# Altium footprint library Soldeerstation.PcbLib: 34 footprints (part 1 of 3)
Each footprint in its own frame and in the unit in brackets; x right, y up, seen from the top. Pads: shape width x height; smd on the part's side, far side on the other; paste and mask are expansions set on the pad; w line width, h text height; cw(c..) or ccw(c..) is an arc to the next point about the centre after c.
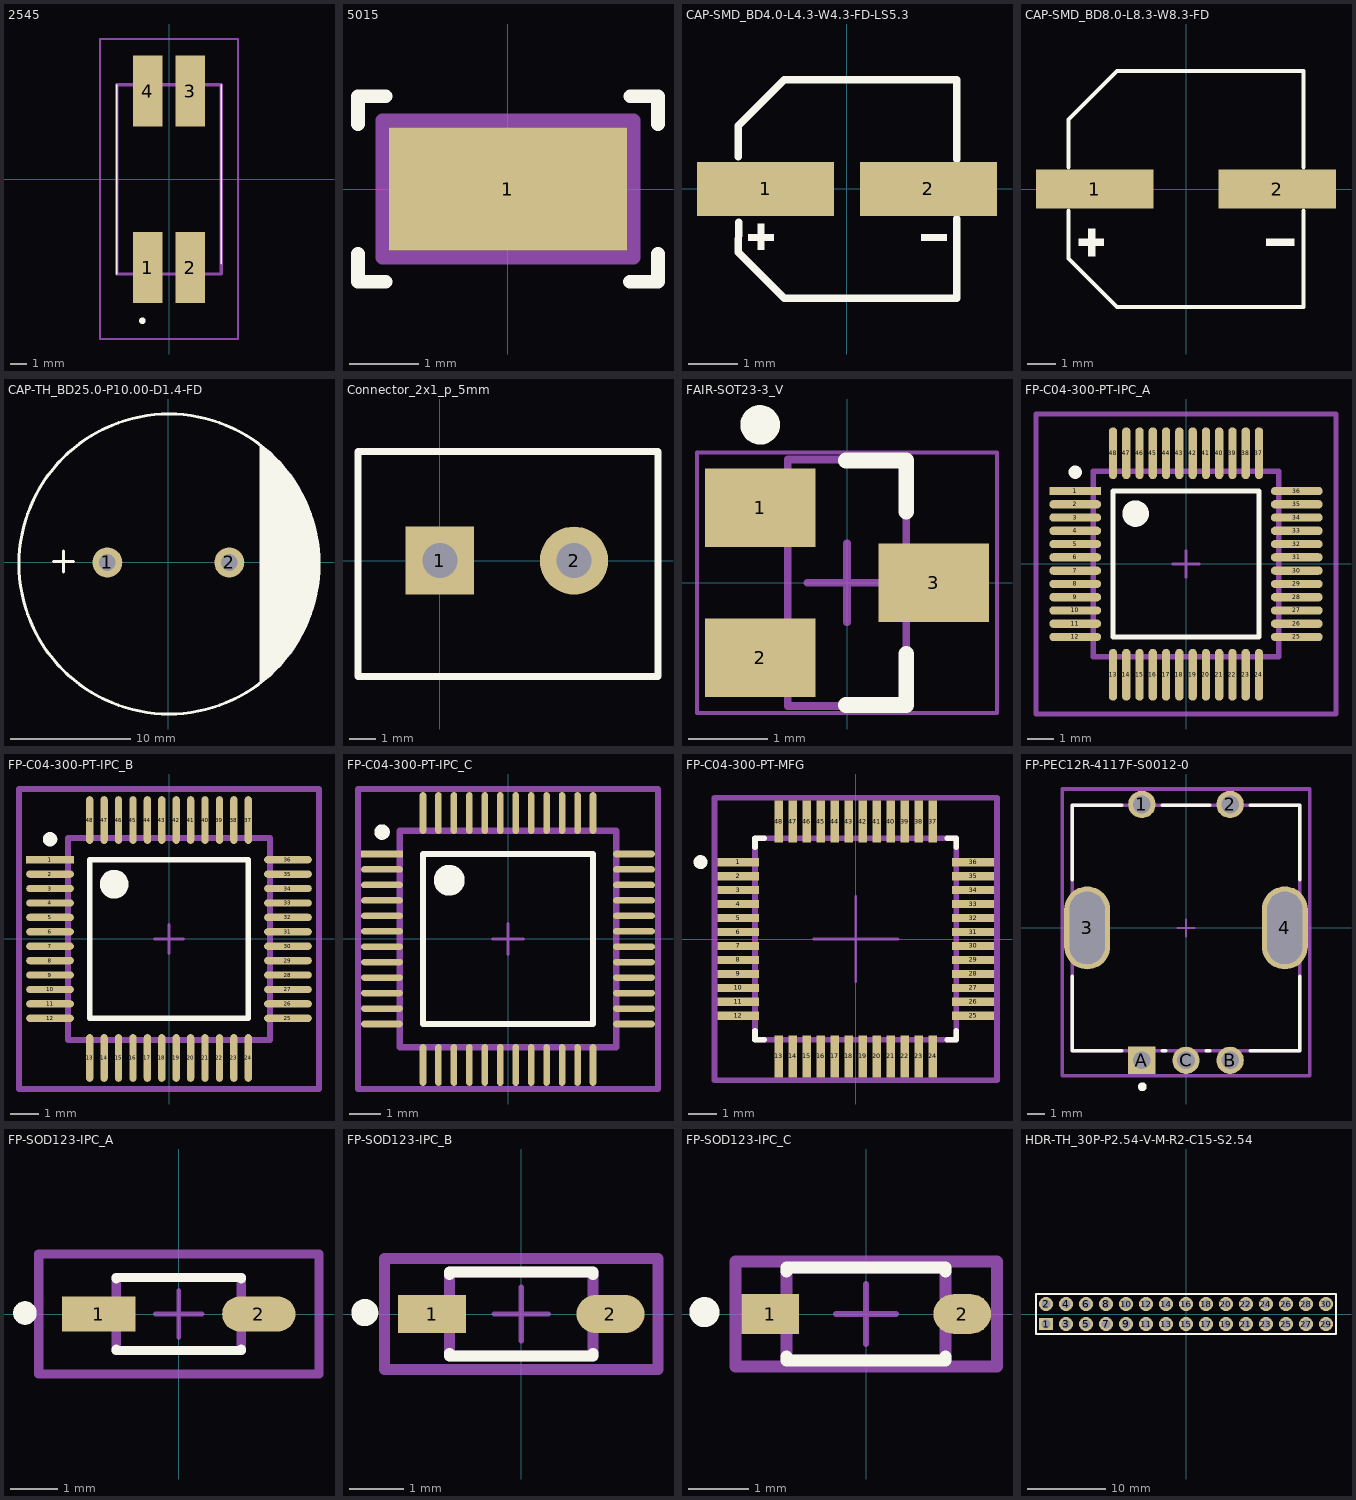
[diagram p0: the footprints below, top view; thin cyan lines are the x and y axes]

## 2545 [mm]
pads (4):
  rect 1.78x4.27 smd: 1(-1.27,-5.305) 2(1.27,-5.305) 3(1.27,5.305) 4(-1.27,5.305)
Top Overlay:
  lines w0.1: -3.15,-5.69 -3.15,5.69 ; 3.15,-5.08 3.15,5.69
  lines w0.2: -1.7,-8.5 ccw(c-1.6,-8.5) -1.5,-8.5 ccw(c-1.6,-8.5) -1.7,-8.5
Mechanical 13:
  lines w0.2: -3.15,-5.69 -3.15,5.69 3.15,5.69 3.15,-5.69 -3.15,-5.69
Mechanical 15:
  lines w0.1: -4.15,-9.6 -4.15,8.44 4.15,8.44 4.15,-9.6 -4.15,-9.6
3D body "CM2545X171R-10.stp": height 9.6, standoff 0, extent -3.15,-7.262 3.15,7.262

## 5015 [mm]
pads (1):
  rect 3.43x1.78 smd paste+0 mask+0: 1(0,0)
Top Overlay:
  lines w0.2: -2.165,-0.94 -2.165,-1.34 -1.765,-1.34 ; -2.165,0.94 -2.165,1.34 -1.765,1.34 ; 1.764,-1.339 2.164,-1.339 2.164,-0.939 ; 1.766,1.339 2.166,1.339 2.166,0.939
Top 3D Body:
  lines w0.2: -1.359,-0.572 1.359,-0.572 1.359,0.572 -1.359,0.572 -1.359,-0.572
Top Courtyard:
  lines w0.2: -1.815,-0.99 1.815,-0.99 1.815,0.99 -1.815,0.99 -1.815,-0.99
Top Assembly:
  lines w0.2: -1.815,-0.99 1.815,-0.99 1.815,0.99 -1.815,0.99 -1.815,-0.99
  text ".Designator" at -2.184,1.864 h1
Top Component Center:
  lines w0.1: -0.5,0 0.5,0 ; 0,-0.5 0,0.5
3D body "testpoint v3.step": height 1.52, standoff 0, extent -1.436,-0.483 1.233,0.537

## CAP-SMD_BD4.0-L4.3-W4.3-FD-LS5.3 [mm]
pads (2):
  rect 2.8x1.1 smd: 1(-1.66,0) 2(1.66,0)
Top Overlay:
  region: -1.818,-0.711 -1.818,-1.245 -1.689,-1.245 -1.689,-0.711
  region: -2.011,-0.925 -2.011,-1.054 -1.495,-1.054 -1.495,-0.925
  region: 2.031,-0.925 2.031,-1.054 1.515,-1.054 1.515,-0.925
  lines w0.152: -2.215,0.66 -2.217,1.29 -1.28,2.225 2.235,2.225 2.235,0.607 ; -2.21,-0.676 -2.217,-1.29 -1.28,-2.226 2.236,-2.226 2.236,-0.607
3D body "D4xL5.4 v1.step": height 5.41, standoff 0, extent -2.438,-2.159 2.462,2.141

## CAP-SMD_BD8.0-L8.3-W8.3-FD [mm] "C445063"
pads (2):
  rect 4.2x1.4 smd: 1(-3.267,0) 2(3.267,0)
Top Overlay:
  region: -3.503,-1.422 -3.503,-2.413 -3.254,-2.413 -3.254,-1.422
  region: -3.835,-1.785 -3.835,-2.033 -2.946,-2.033 -2.946,-1.785
  region: 3.876,-1.785 3.876,-2.033 2.88,-2.033 2.88,-1.785
  lines w0.152: -4.201,-0.782 -4.201,-2.49 -2.465,-4.226 4.201,-4.226 4.201,-0.782 ; -4.201,0.782 -4.201,2.49 -2.465,4.226 4.201,4.226 4.201,0.782
3D body "Nichicon D8xL10 v1.step": height 10.31, standoff 0, extent -4.638,-4.089 4.262,4.211

## CAP-TH_BD25.0-P10.00-D1.4-FD [mm]
pads (2):
  round 2.5 hole 1.4: 1(-5.08,0) 2(5.08,0)
Top Overlay:
  circle w0.254: c0.058,-0.127 r12.5
  region: 7.62,-10.1 8,-9.808 8.712,-9.168 9.374,-8.476 9.981,-7.735 10.53,-6.95 11.017,-6.125 11.44,-5.266 11.797,-4.377 12.084,-3.463 12.301,-2.531 12.447,-1.584 12.52,-0.629 12.52,0.329 12.447,1.284 12.301,2.231 12.084,3.163 11.797,4.077 11.44,4.966 11.017,5.825 10.53,6.65 9.981,7.435 9.374,8.176 8.712,8.868 8,9.508 7.62,9.8
  region: 7.62,-10.1 8,-9.808 8.712,-9.168 9.374,-8.476 9.981,-7.735 10.53,-6.95 11.017,-6.125 11.44,-5.266 11.797,-4.377 12.084,-3.463 12.301,-2.531 12.447,-1.584 12.52,-0.629 12.52,0.329 12.447,1.284 12.301,2.231 12.084,3.163 11.797,4.077 11.44,4.966 11.017,5.825 10.53,6.65 9.981,7.435 9.374,8.176 8.712,8.868 8,9.508 7.62,9.8
  lines w0.254: -9.576,0.076 -7.899,0.076 ; -8.738,-0.787 -8.738,0.94
3D body "D25xL25 v1.step": height 25, standoff 0, extent -12.496,-12.678 12.496,12.322

## Connector_2x1_p_5mm [mm]
pads (2):
  rect 2.54x2.54 hole 1.3: 1(0,0)
  round 2.54 hole 1.3: 2(5,0)
Top Overlay:
  lines w0.254: -3.048,-4.318 -3.048,0 -3.048,4.064 7.874,4.064 8.128,4.064 8.128,2.746 8.128,1.714 8.128,-1.968 8.128,-3 8.128,-3.54 8.128,-4.318 -3.048,-4.318

## FAIR-SOT23-3_V [mm] "SOT23, 3-Leads, Body 3.12x1.5mm, Pitch 0.95mm"
height 1.2
pads (3):
  rect 1.4x1 smd: 1(-1.1,0.95) 2(-1.1,-0.95) 3(1.1,0)
Top Overlay:
  circle w0.25: c-1.1,2 r0.125
  lines w0.2: -0.013,-1.55 0.75,-1.55 0.75,-0.9 ; -0.013,1.55 0.75,1.55 0.75,0.9
Mechanical 13:
  lines w0.1: -0.75,-1.56 -0.75,1.56 0.75,1.56 0.75,-1.56 -0.75,-1.56
Mechanical 15:
  lines w0.05: -1.9,-1.65 -1.9,1.65 1.9,1.65 1.9,-1.65 -1.9,-1.65
  lines w0.1: -0.5,0 0.5,0 ; 0,-0.5 0,0.5
3D body "SOT95P240X120-3L.step": height 1.2, standoff 0, extent -1.35,-1.56 1.35,1.56

## FP-C04-300-PT-IPC_A [mm]
pads (48):
  rect 1.955x0.312 smd paste+0 mask+0: 1(-4.175,2.75)
  rrect100% 1.955x0.312 smd paste+0 mask+0: 2(-4.175,2.25) 3(-4.175,1.75) 4(-4.175,1.25) 5(-4.175,0.75) 6(-4.175,0.25) 7(-4.175,-0.25) 8(-4.175,-0.75) 9(-4.175,-1.25) 10(-4.175,-1.75) 11(-4.175,-2.25) 12(-4.175,-2.75) 25(4.175,-2.75) 26(4.175,-2.25) 27(4.175,-1.75) 28(4.175,-1.25) 29(4.175,-0.75) 30(4.175,-0.25) 31(4.175,0.25) 32(4.175,0.75) 33(4.175,1.25) 34(4.175,1.75) 35(4.175,2.25) 36(4.175,2.75)
  rrect100% 0.312x1.955 smd paste+0 mask+0: 13(-2.75,-4.175) 14(-2.25,-4.175) 15(-1.75,-4.175) 16(-1.25,-4.175) 17(-0.75,-4.175) 18(-0.25,-4.175) 19(0.25,-4.175) 20(0.75,-4.175) 21(1.25,-4.175) 22(1.75,-4.175) 23(2.25,-4.175) 24(2.75,-4.175) 37(2.75,4.175) 38(2.25,4.175) 39(1.75,4.175) 40(1.25,4.175) 41(0.75,4.175) 42(0.25,4.175) 43(-0.25,4.175) 44(-0.75,4.175) 45(-1.25,4.175) 46(-1.75,4.175) 47(-2.25,4.175) 48(-2.75,4.175)
Top Overlay:
  circle w0.5: c-1.9,1.9 r0.25
  circle w0.25: c-4.175,3.46 r0.125
  lines w0.2: -2.75,-2.75 -2.75,2.75 2.75,2.75 2.75,-2.75 -2.75,-2.75
Top 3D Body:
  lines w0.2: -3.5,-3.5 -3.5,3.5 3.5,3.5 3.5,-3.5 -3.5,-3.5
Top Courtyard:
  lines w0.2: -5.653,-5.653 -5.653,5.653 5.653,5.653 5.653,-5.653 -5.653,-5.653
Top Assembly:
  lines w0.2: -5.653,-5.653 -5.653,5.653 5.653,5.653 5.653,-5.653 -5.653,-5.653
  text ".Designator" at 0,-0.001 h1
Top Component Center:
  lines w0.1: -0.5,0 0.5,0 ; 0,-0.5 0,0.5
3D body "IC_Microchip_PIC24FJ256GA705-I-PT_eec.STEP": height 0.25, standoff 0, extent -5.653,-5.653 5.653,5.653

## FP-C04-300-PT-IPC_B [mm]
pads (48):
  rect 1.655x0.252 smd paste+0 mask+0: 1(-4.125,2.75)
  rrect100% 1.655x0.252 smd paste+0 mask+0: 2(-4.125,2.25) 3(-4.125,1.75) 4(-4.125,1.25) 5(-4.125,0.75) 6(-4.125,0.25) 7(-4.125,-0.25) 8(-4.125,-0.75) 9(-4.125,-1.25) 10(-4.125,-1.75) 11(-4.125,-2.25) 12(-4.125,-2.75) 25(4.125,-2.75) 26(4.125,-2.25) 27(4.125,-1.75) 28(4.125,-1.25) 29(4.125,-0.75) 30(4.125,-0.25) 31(4.125,0.25) 32(4.125,0.75) 33(4.125,1.25) 34(4.125,1.75) 35(4.125,2.25) 36(4.125,2.75)
  rrect100% 0.252x1.655 smd paste+0 mask+0: 13(-2.75,-4.125) 14(-2.25,-4.125) 15(-1.75,-4.125) 16(-1.25,-4.125) 17(-0.75,-4.125) 18(-0.25,-4.125) 19(0.25,-4.125) 20(0.75,-4.125) 21(1.25,-4.125) 22(1.75,-4.125) 23(2.25,-4.125) 24(2.75,-4.125) 37(2.75,4.125) 38(2.25,4.125) 39(1.75,4.125) 40(1.25,4.125) 41(0.75,4.125) 42(0.25,4.125) 43(-0.25,4.125) 44(-0.75,4.125) 45(-1.25,4.125) 46(-1.75,4.125) 47(-2.25,4.125) 48(-2.75,4.125)
Top Overlay:
  circle w0.5: c-1.9,1.9 r0.25
  circle w0.25: c-4.125,3.46 r0.125
  lines w0.2: -2.75,-2.75 -2.75,2.75 2.75,2.75 2.75,-2.75 -2.75,-2.75
Top 3D Body:
  lines w0.2: -3.5,-3.5 -3.5,3.5 3.5,3.5 3.5,-3.5 -3.5,-3.5
Top Courtyard:
  lines w0.2: -5.203,-5.203 -5.203,5.203 5.203,5.203 5.203,-5.203 -5.203,-5.203
Top Assembly:
  lines w0.2: -5.203,-5.203 -5.203,5.203 5.203,5.203 5.203,-5.203 -5.203,-5.203
  text ".Designator" at 0,-0.001 h1
Top Component Center:
  lines w0.1: -0.5,0 0.5,0 ; 0,-0.5 0,0.5
3D body "IC_Microchip_PIC24FJ256GA705-I-PT_eec.STEP": height 0.25, standoff 0, extent -5.203,-5.203 5.203,5.203

## FP-C04-300-PT-IPC_C [mm]
pads (48):
  rect 1.355x0.212 smd paste+0 mask+0: 1(-4.075,2.75)
  rrect100% 1.355x0.212 smd paste+0 mask+0: 2(-4.075,2.25) 3(-4.075,1.75) 4(-4.075,1.25) 5(-4.075,0.75) 6(-4.075,0.25) 7(-4.075,-0.25) 8(-4.075,-0.75) 9(-4.075,-1.25) 10(-4.075,-1.75) 11(-4.075,-2.25) 12(-4.075,-2.75) 25(4.075,-2.75) 26(4.075,-2.25) 27(4.075,-1.75) 28(4.075,-1.25) 29(4.075,-0.75) 30(4.075,-0.25) 31(4.075,0.25) 32(4.075,0.75) 33(4.075,1.25) 34(4.075,1.75) 35(4.075,2.25) 36(4.075,2.75)
  rrect100% 0.212x1.355 smd paste+0 mask+0: 13(-2.75,-4.075) 14(-2.25,-4.075) 15(-1.75,-4.075) 16(-1.25,-4.075) 17(-0.75,-4.075) 18(-0.25,-4.075) 19(0.25,-4.075) 20(0.75,-4.075) 21(1.25,-4.075) 22(1.75,-4.075) 23(2.25,-4.075) 24(2.75,-4.075) 37(2.75,4.075) 38(2.25,4.075) 39(1.75,4.075) 40(1.25,4.075) 41(0.75,4.075) 42(0.25,4.075) 43(-0.25,4.075) 44(-0.75,4.075) 45(-1.25,4.075) 46(-1.75,4.075) 47(-2.25,4.075) 48(-2.75,4.075)
Top Overlay:
  circle w0.25: c-4.075,3.46 r0.125
  circle w0.5: c-1.9,1.9 r0.25
  lines w0.2: -2.75,-2.75 2.75,-2.75 2.75,2.75 -2.75,2.75 -2.75,-2.75
Top 3D Body:
  lines w0.2: -3.5,-3.5 3.5,-3.5 3.5,3.5 -3.5,3.5 -3.5,-3.5
Top Courtyard:
  lines w0.2: -4.853,-4.853 4.853,-4.853 4.853,4.853 -4.853,4.853 -4.853,-4.853
Top Assembly:
  lines w0.2: -4.853,-4.853 4.853,-4.853 4.853,4.853 -4.853,4.853 -4.853,-4.853
  text ".Designator" at 0,-0.001 h1
Top Component Center:
  lines w0.1: -0.5,0 0.5,0 ; 0,-0.5 0,0.5
3D body "IC_Microchip_PIC24FJ256GA705-I-PT_eec.STEP": height 0.25, standoff 0, extent -4.853,-4.853 4.853,4.853

## FP-C04-300-PT-MFG [mm]
pads (48):
  rect 1.5x0.3 smd paste+0 mask+0: 1(-4.2,2.75) 2(-4.2,2.25) 3(-4.2,1.75) 4(-4.2,1.25) 5(-4.2,0.75) 6(-4.2,0.25) 7(-4.2,-0.25) 8(-4.2,-0.75) 9(-4.2,-1.25) 10(-4.2,-1.75) 11(-4.2,-2.25) 12(-4.2,-2.75) 25(4.2,-2.75) 26(4.2,-2.25) 27(4.2,-1.75) 28(4.2,-1.25) 29(4.2,-0.75) 30(4.2,-0.25) 31(4.2,0.25) 32(4.2,0.75) 33(4.2,1.25) 34(4.2,1.75) 35(4.2,2.25) 36(4.2,2.75)
  rect 0.3x1.5 smd paste+0 mask+0: 13(-2.75,-4.2) 14(-2.25,-4.2) 15(-1.75,-4.2) 16(-1.25,-4.2) 17(-0.75,-4.2) 18(-0.25,-4.2) 19(0.25,-4.2) 20(0.75,-4.2) 21(1.25,-4.2) 22(1.75,-4.2) 23(2.25,-4.2) 24(2.75,-4.2) 37(2.75,4.2) 38(2.25,4.2) 39(1.75,4.2) 40(1.25,4.2) 41(0.75,4.2) 42(0.25,4.2) 43(-0.25,4.2) 44(-0.75,4.2) 45(-1.25,4.2) 46(-1.75,4.2) 47(-2.25,4.2) 48(-2.75,4.2)
Top Overlay:
  circle w0.25: c-5.55,2.75 r0.125
  lines w0.2: -3.6,-3.275 -3.6,-3.6 -3.275,-3.6 ; -3.6,3.275 -3.6,3.6 -3.275,3.6 ; 3.275,-3.6 3.6,-3.6 3.6,-3.275 ; 3.275,3.6 3.6,3.6 3.6,3.275
Top 3D Body:
  lines w0.2: -3.6,-3.6 3.6,-3.6 3.6,3.6 -3.6,3.6 -3.6,-3.6
Top Courtyard:
  lines w0.2: -5.05,-5.05 5.05,-5.05 5.05,5.05 -5.05,5.05 -5.05,-5.05
Top Assembly:
  lines w0.2: -5.05,-5.05 5.05,-5.05 5.05,5.05 -5.05,5.05 -5.05,-5.05
  text ".Designator" at 0,0.188 h1
Top Component Center:
  lines w0.1: -1.515,0 1.515,0 ; 0,-1.515 0,1.515
3D body "IC_Microchip_PIC24FJ256GA705-I-PT_eec.STEP": height 0.25, standoff 0, extent -5.05,-5.05 5.05,5.05

## FP-PEC12R-4117F-S0012-0 [mm]
pads (7):
  round 1.55 hole 1 paste-1000 mask+0: 1(-2.5,7) 2(2.5,7) B(2.5,-7.5) C(0,-7.5)
  rrect100% 2.6x4.7 hole 4.1 slot 2 at 0 deg paste-1000 mask+0: 3(-5.6,0) 4(5.6,0)
  rect 1.55x1.55 hole 1 paste-1000 mask+0: A(-2.5,-7.5)
Top Overlay:
  circle w0.25: c-2.475,-9 r0.125
  lines w0.2: -6.45,-2.725 -6.45,-6.95 -3.65,-6.95 ; -6.45,2.725 -6.45,6.95 -3.65,6.95 ; -1.35,-6.95 -1.15,-6.95 ; -1.35,6.95 1.35,6.95 ; 1.15,-6.95 1.35,-6.95 ; 3.65,-6.95 6.45,-6.95 6.45,-2.725 ; 3.65,6.95 6.45,6.95 6.45,2.725
Top 3D Body:
  lines w0.2: -6.45,-6.95 6.45,-6.95 6.45,6.95 -6.45,6.95 -6.45,-6.95
Top Courtyard:
  lines w0.2: -7,-8.375 7,-8.375 7,7.875 -7,7.875 -7,-8.375
Top Assembly:
  lines w0.2: -7,-8.375 7,-8.375 7,7.875 -7,7.875 -7,-8.375
  text ".Designator" at 0,-0.062 h1
Top Component Center:
  lines w0.1: -0.5,0 0.5,0 ; 0,-0.5 0,0.5
3D body "Enc_Bourns_PEC12R-4117F-S0012_eec.STEP": height 0.25, standoff 0, extent -7,-8.375 7,7.875

## FP-SOD123-IPC_A [mm]
pads (2):
  rect 1.557x0.742 smd paste+0 mask+0: 1(-1.7,0)
  rrect100% 1.557x0.742 smd paste+0 mask+0: 2(1.7,0)
Top Overlay:
  circle w0.25: c-3.27,0.021 r0.125
  lines w0.2: -1.325,-0.746 -1.325,-0.775 1.325,-0.775 1.325,-0.746 ; -1.325,0.746 -1.325,0.775 1.325,0.775 1.325,0.746
Top 3D Body:
  lines w0.2: -1.325,-0.775 -1.325,0.775 1.325,0.775 1.325,-0.775 -1.325,-0.775
Top Courtyard:
  lines w0.2: -2.979,-1.275 -2.979,1.275 2.979,1.275 2.979,-1.275 -2.979,-1.275
Top Assembly:
  lines w0.2: -2.979,-1.275 -2.979,1.275 2.979,1.275 2.979,-1.275 -2.979,-1.275
  text ".Designator" at 0,0.188 h1
Top Component Center:
  lines w0.1: -0.5,0 0.5,0 ; 0,-0.5 0,0.5
3D body "Diode_Diodes_Inc_MMSZ5245B-7-F_eec.STEP": height 0.25, standoff 0, extent -2.979,-1.275 2.979,1.275

## FP-SOD123-IPC_B [mm]
pads (2):
  rect 1.257x0.702 smd paste+0 mask+0: 1(-1.65,0)
  rrect100% 1.257x0.702 smd paste+0 mask+0: 2(1.65,0)
Top Overlay:
  circle w0.25: c-2.895,0.026 r0.125
  lines w0.2: -1.325,-0.726 -1.325,-0.775 1.325,-0.775 1.325,-0.726 ; -1.325,0.726 -1.325,0.775 1.325,0.775 1.325,0.726
Top 3D Body:
  lines w0.2: -1.325,-0.775 -1.325,0.775 1.325,0.775 1.325,-0.775 -1.325,-0.775
Top Courtyard:
  lines w0.2: -2.529,-1.025 -2.529,1.025 2.529,1.025 2.529,-1.025 -2.529,-1.025
Top Assembly:
  lines w0.2: -2.529,-1.025 -2.529,1.025 2.529,1.025 2.529,-1.025 -2.529,-1.025
  text ".Designator" at 0,0.188 h1
Top Component Center:
  lines w0.1: -0.5,0 0.5,0 ; 0,-0.5 0,0.5
3D body "Diode_Diodes_Inc_MMSZ5245B-7-F_eec.STEP": height 0.25, standoff 0, extent -2.529,-1.025 2.529,1.025

## FP-SOD123-IPC_C [mm]
pads (2):
  rect 0.957x0.662 smd paste+0 mask+0: 1(-1.6,0)
  rrect100% 0.957x0.662 smd paste+0 mask+0: 2(1.6,0)
Top Overlay:
  circle w0.25: c-2.695,0.031 r0.125
  lines w0.2: -1.325,-0.706 -1.325,-0.775 1.325,-0.775 1.325,-0.706 ; -1.325,0.706 -1.325,0.775 1.325,0.775 1.325,0.706
Top 3D Body:
  lines w0.2: -1.325,-0.775 1.325,-0.775 1.325,0.775 -1.325,0.775 -1.325,-0.775
Top Courtyard:
  lines w0.2: -2.179,-0.875 2.179,-0.875 2.179,0.875 -2.179,0.875 -2.179,-0.875
Top Assembly:
  lines w0.2: -2.179,-0.875 2.179,-0.875 2.179,0.875 -2.179,0.875 -2.179,-0.875
  text ".Designator" at 0,0.188 h1
Top Component Center:
  lines w0.1: -0.5,0 0.5,0 ; 0,-0.5 0,0.5
3D body "Diode_Diodes_Inc_MMSZ5245B-7-F_eec.STEP": height 0.25, standoff 0, extent -2.179,-0.875 2.179,0.875

## HDR-TH_30P-P2.54-V-M-R2-C15-S2.54 [mm]
pads (30):
  rect 1.8x1.575 hole 1.1: 1(-17.78,-1.27)
  round 1.8 hole 1.1: 2(-17.78,1.27) 3(-15.24,-1.27) 4(-15.24,1.27) 5(-12.7,-1.27) 6(-12.7,1.27) 7(-10.16,-1.27) 8(-10.16,1.27) 9(-7.62,-1.27) 10(-7.62,1.27) 11(-5.08,-1.27) 12(-5.08,1.27) 13(-2.54,-1.27) 14(-2.54,1.27) 15(0,-1.27) 16(0,1.27) 17(2.54,-1.27) 18(2.54,1.27) 19(5.08,-1.27) 20(5.08,1.27) 21(7.62,-1.27) 22(7.62,1.27) 23(10.16,-1.27) 24(10.16,1.27) 25(12.7,-1.27) 26(12.7,1.27) 27(15.24,-1.27) 28(15.24,1.27) 29(17.78,-1.27) 30(17.78,1.27)
Top Overlay:
  lines w0.203: -19.05,-2.54 -19.05,2.54 19.05,2.54 19.05,-2.54 -6.35,-2.54 -19.05,-2.54
3D body "2x15 Male Pin Header.STEP": height 10.54, standoff -3, extent -19.075,-2.475 19.03,2.525